# Altium schematic symbol library Microcontroladores.SchLib: 3 symbols
Pins are listed as number, name and electrical type; pins without a type are passive.

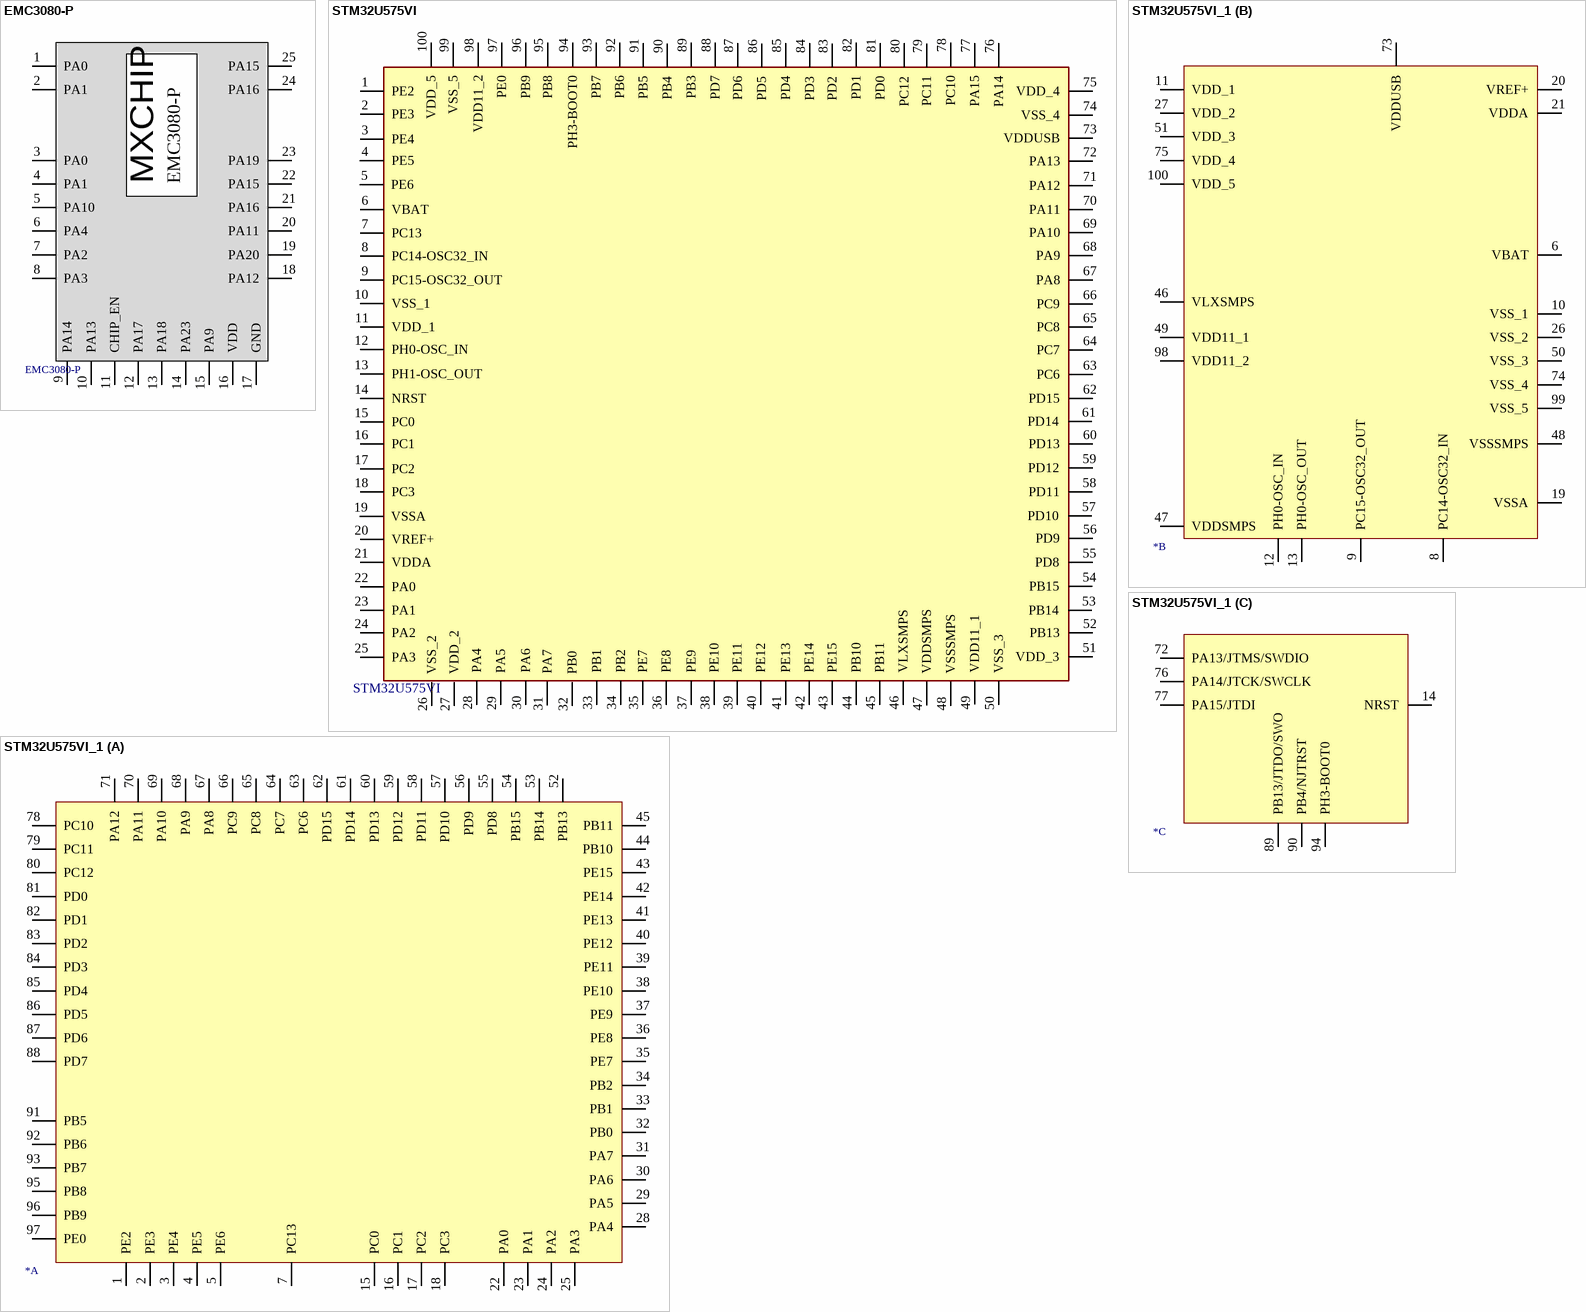
[diagram p0: symbols EMC3080-P to STM32U575VI_1]

## EMC3080-P
designator EMC3080-P  (value not drawn)
Solamente es el zocalo donde va montado el chip, por eso no tiene modelo 3D; Manufacturer: MXCHIP; Manufacturer Part Number: EMC3080-P; Category: BLE Module; Datasheet: https://files.seeedstudio.com/products/113990975/EMC3080EN.pdf; Temperature Max: 85; Temperature Min: -25
footprint EMC3080-P
pins: 1 PA0, 2 PA1, 3 PA0, 4 PA1, 5 PA10, 6 PA4, 7 PA2, 8 PA3, 9 PA14, 10 PA13, 11 CHIP_EN, 12 PA17, 13 PA18, 14 PA23, 15 PA9, 16 VDD, 17 GND, 18 PA12, 19 PA20, 20 PA11, 21 PA16, 22 PA15, 23 PA19, 24 PA16, 25 PA15

## STM32U575VI
designator STM32U575VI  (value not drawn)
Ultra-low-power with FPU Arm Cortex-M33 MCU with TrustZone, 160 MHz with 2 Mbytes of Flash memory; Manufacturer: ST; Manufacturer Part Number: STM32U575VIT6Q; Category: Microcontrolador; Datasheet: https://www.st.com/resource/en/datasheet/stm32u575ag.pdf; Temperature Max: 85; Temperature Min: -40
footprint STM32U575VI (Ultra-low-power with FPU Arm Cortex-M33 MCU with TrustZone, 160 MHz with 2 Mbytes of Flash memory)
pins: 1 PE2, 2 PE3, 3 PE4, 4 PE5, 5 PE6, 6 VBAT, 7 PC13, 8 PC14-OSC32_IN, 9 PC15-OSC32_OUT, 10 VSS_1, 11 VDD_1, 12 PH0-OSC_IN, 13 PH1-OSC_OUT, 14 NRST, 15 PC0, 16 PC1, 17 PC2, 18 PC3, 19 VSSA, 20 VREF+, 21 VDDA, 22 PA0, 23 PA1, 24 PA2, 25 PA3, 26 VSS_2, 27 VDD_2, 28 PA4, 29 PA5, 30 PA6, 31 PA7, 32 PB0, 33 PB1, 34 PB2, 35 PE7, 36 PE8, 37 PE9, 38 PE10, 39 PE11, 40 PE12, 41 PE13, 42 PE14, 43 PE15, 44 PB10, 45 PB11, 46 VLXSMPS, 47 VDDSMPS, 48 VSSSMPS, 49 VDD11_1, 50 VSS_3, 51 VDD_3, 52 PB13, 53 PB14, 54 PB15, 55 PD8, 56 PD9, 57 PD10, 58 PD11, 59 PD12, 60 PD13, 61 PD14, 62 PD15, 63 PC6, 64 PC7, 65 PC8, 66 PC9, 67 PA8, 68 PA9, 69 PA10, 70 PA11, 71 PA12, 72 PA13, 73 VDDUSB, 74 VSS_4, 75 VDD_4, 76 PA14, 77 PA15, 78 PC10, 79 PC11, 80 PC12, 81 PD0, 82 PD1, 83 PD2, 84 PD3, 85 PD4, 86 PD5, 87 PD6, 88 PD7, 89 PB3, 90 PB4, 91 PB5, 92 PB6, 93 PB7, 94 PH3-BOOT0, 95 PB8, 96 PB9, 97 PE0, 98 VDD11_2, 99 VSS_5, 100 VDD_5

## STM32U575VI_1
designator *  (value not drawn)
Manufacturer: ST; Manufacturer Part Number: STM32U575VIT6Q; Category: Microcontrolador; Datasheet: https://www.st.com/resource/en/datasheet/stm32u575ag.pdf; Temperature Max: 85; Temperature Min: -40
footprint STM32U575VI (Ultra-low-power with FPU Arm Cortex-M33 MCU with TrustZone, 160 MHz with 2 Mbytes of Flash memory)
part A pins: 1 PE2, 2 PE3, 3 PE4, 4 PE5, 5 PE6, 7 PC13, 15 PC0, 16 PC1, 17 PC2, 18 PC3, 22 PA0, 23 PA1, 24 PA2, 25 PA3, 28 PA4, 29 PA5, 30 PA6, 31 PA7, 32 PB0, 33 PB1, 34 PB2, 35 PE7, 36 PE8, 37 PE9, 38 PE10, 39 PE11, 40 PE12, 41 PE13, 42 PE14, 43 PE15, 44 PB10, 45 PB11, 52 PB13, 53 PB14, 54 PB15, 55 PD8, 56 PD9, 57 PD10, 58 PD11, 59 PD12, 60 PD13, 61 PD14, 62 PD15, 63 PC6, 64 PC7, 65 PC8, 66 PC9, 67 PA8, 68 PA9, 69 PA10, 70 PA11, 71 PA12, 78 PC10, 79 PC11, 80 PC12, 81 PD0, 82 PD1, 83 PD2, 84 PD3, 85 PD4, 86 PD5, 87 PD6, 88 PD7, 91 PB5, 92 PB6, 93 PB7, 95 PB8, 96 PB9, 97 PE0
part B pins: 6 VBAT, 8 PC14-OSC32_IN, 9 PC15-OSC32_OUT, 10 VSS_1, 11 VDD_1, 12 PH0-OSC_IN, 13 PH0-OSC_OUT, 19 VSSA, 20 VREF+, 21 VDDA, 26 VSS_2, 27 VDD_2, 46 VLXSMPS, 47 VDDSMPS, 48 VSSSMPS, 49 VDD11_1, 50 VSS_3, 51 VDD_3, 73 VDDUSB, 74 VSS_4, 75 VDD_4, 98 VDD11_2, 99 VSS_5, 100 VDD_5
part C pins: 14 NRST, 72 PA13/JTMS/SWDIO, 76 PA14/JTCK/SWCLK, 77 PA15/JTDI, 89 PB13/JTDO/SWO, 90 PB4/NJTRST, 94 PH3-BOOT0